# EAGLE library part ATMEGA32U2-AU (library SamacSys_Parts)
ATMEGA32U2-AU, 8 bit AVR Microcontroller 16MHz 1024 B, 32 kB Flash, 1024 B RAM, USB 32-Pin TQFP Source: Datasheet <http://www.atmel.com/images/7799s.pdf>
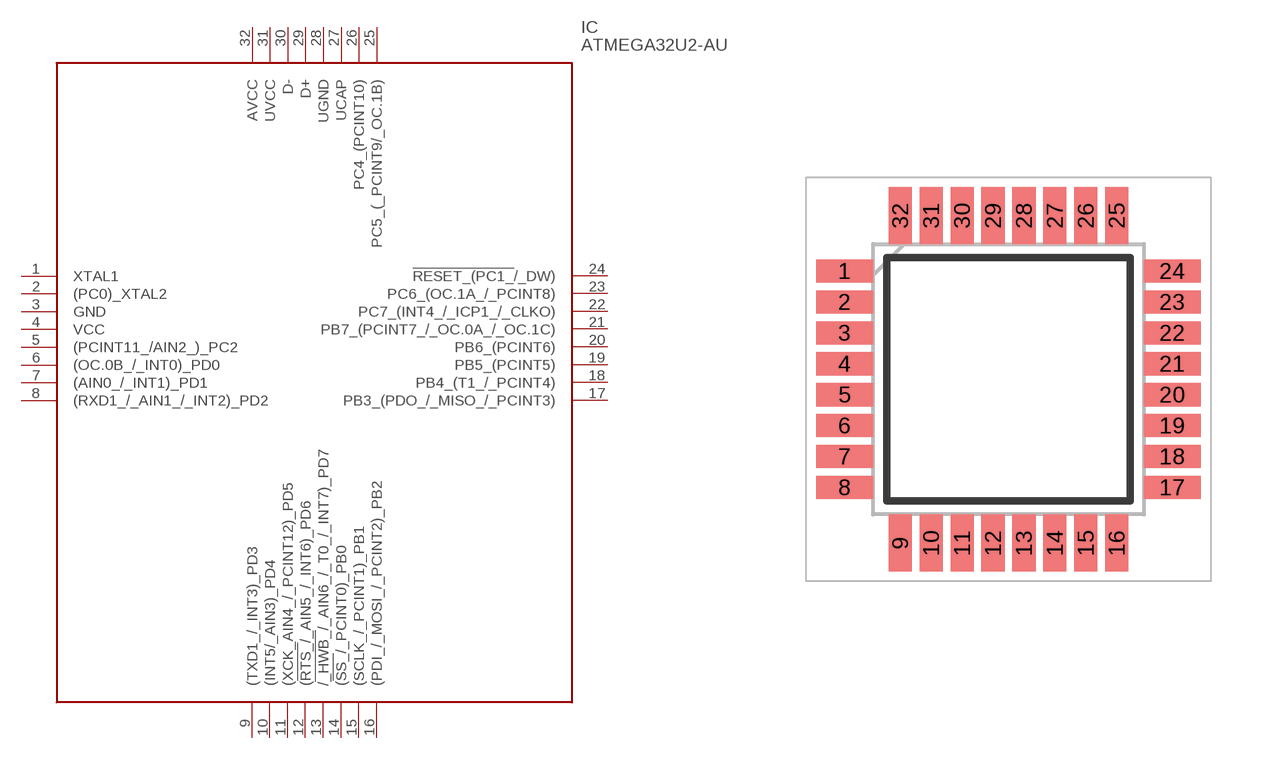
[diagram p1: symbol with the pads of QFP80P900X900X120-32N; footprint QFP80P900X900X120-32N]

Designator prefix IC

## ATMEGA32U2-AU (DESCRIPTION: ATMEGA32U2-AU, 8 bit AVR Microcontroller 16MHz 1024 B, 32 kB Flash, 1024 B RAM, USB 32-Pin TQFP; HEIGHT: 1.2mm; MANUFACTURER_NAME: Microchip; MANUFACTURER_PART_NUMBER: ATMEGA32U2-AU; MOUSER_PART_NUMBER: 556-ATMEGA32U2-AU; MOUSER_PRICE-STOCK: https://www.mouser.co.uk/ProductDetail/Microchip-Technology-Atmel/ATMEGA32U2-AU?qs=rBGENRD8NwKYx79eccv8UA%3D%3D)  [QFP80P900X900X120-32N]
1  XTAL1
2  (PC0)_XTAL2
3  GND
4  VCC
5  (PCINT11_/AIN2_)_PC2
6  (OC.0B_/_INT0)_PD0
7  (AIN0_/_INT1)_PD1
8  (RXD1_/_AIN1_/_INT2)_PD2
9  (TXD1_/_INT3)_PD3
10  (INT5/_AIN3)_PD4
11  (XCK_AIN4_/_PCINT12)_PD5
12  (!RTS_!/_AIN5_/_INT6)_PD6
13  /!_HWB_!/_AIN6_/_T0_/_INT7)_PD7
14  (!SS_!/_PCINT0)_PB0
15  (SCLK_/_PCINT1)_PB1
16  (PDI_/_MOSI_/_PCINT2)_PB2
17  PB3_(PDO_/_MISO_/_PCINT3)
18  PB4_(T1_/_PCINT4)
19  PB5_(PCINT5)
20  PB6_(PCINT6)
21  PB7_(PCINT7_/_OC.0A_/_OC.1C)
22  PC7_(INT4_/_ICP1_/_CLKO)
23  PC6_(OC.1A_/_PCINT8)
24  !RESET_(PC1_!/_DW)
25  PC5_(_PCINT9/_OC.1B)
26  PC4_(PCINT10)
27  UCAP
28  UGND
29  D+
30  D-
31  UVCC
32  AVCC

## Footprint QFP80P900X900X120-32N (pad centres in mm)
TQFPA-1
smd 1.475 x 0.6: 1 -4.238,2.8; 2 -4.238,2; 3 -4.238,1.2; 4 -4.238,0.4; 5 -4.238,-0.4; 6 -4.238,-1.2; 7 -4.238,-2; 8 -4.238,-2.8; 17 4.238,-2.8; 18 4.238,-2; 19 4.238,-1.2; 20 4.238,-0.4; 21 4.238,0.4; 22 4.238,1.2; 23 4.238,2; 24 4.238,2.8
smd 0.6 x 1.475: 9 -2.8,-4.238; 10 -2,-4.238; 11 -1.2,-4.238; 12 -0.4,-4.238; 13 0.4,-4.238; 14 1.2,-4.238; 15 2,-4.238; 16 2.8,-4.238; 25 2.8,4.238; 26 2,4.238; 27 1.2,4.238; 28 0.4,4.238; 29 -0.4,4.238; 30 -1.2,4.238; 31 -2,4.238; 32 -2.8,4.238